# EAGLE library part USBLC6-2 (library yantronix)
Very low capacitance ESD protection
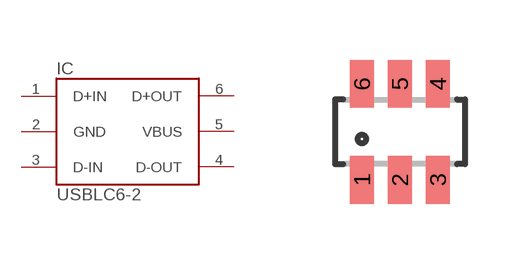
[diagram p8: symbol with the pads of SOT23-6; footprint SOT23-6]

Designator prefix IC

## USBLC6-2SC6  [SOT23-6]
1  D+IN
2  GND  pwr
3  D-IN
4  D-OUT
5  VBUS  pwr
6  D+OUT

## Footprint SOT23-6 (pad centres in mm)
smd 0.6 x 1.2: 1 -0.95,-1.2; 2 0,-1.2; 3 0.95,-1.2; 4 0.95,1.2; 5 0,1.2; 6 -0.95,1.2